# Altium schematic symbol library 1040310811.SchLib: 1 symbol
Pins are listed as number, name and electrical type; pins without a type are passive.

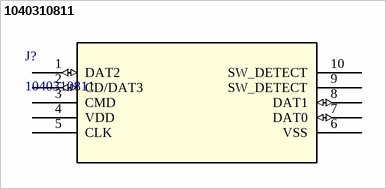
[diagram p0: symbol 1040310811]

## 1040310811
designator J?
1.10mm Pitch microSD Memory Card Connector, Surface Mount, Push-Pull Type, 1.42mm Height, with Detect Switch; Manufacturer_Name: Molex Connector Corporation; Copyright: Copyright (C) 2025 Ultra Librarian. All rights reserved.; Manufacturer_Part_Number: 1040310811; RefDes: RefDes; Type: Type
footprint 104031-0811_MOL
pins: 1 DAT2 (io), 2 CD/DAT3 (io), 3 CMD, 4 VDD (power), 5 CLK, 6 VSS (power), 7 DAT0 (io), 8 DAT1 (io), 9 SW_DETECT, 10 SW_DETECT